# EAGLE library part MC13821 (library GW-devices)
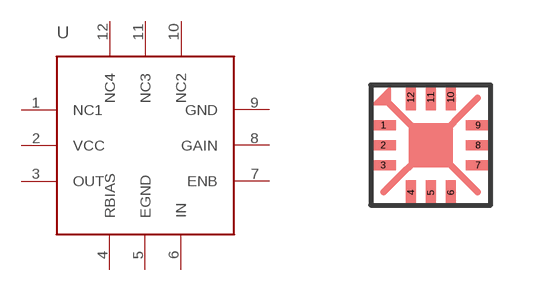
[diagram p13: symbol with the pads of QFN12; footprint QFN12]

Designator prefix -

## MC13821  [QFN12]
1  NC1
2  VCC
3  OUT
4  RBIAS
5  EGND
6  IN
7  ENB
8  GAIN
9  GND
10  NC2
11  NC3
12  NC4

## Footprint QFN12 (pad centres in mm)
smd 0.625 x 0.25: 1 -1.188,0.5; 2 -1.188,0; 3 -1.188,-0.5; 7 1.188,-0.5; 8 1.188,0; 9 1.188,0.5
smd 0.25 x 0.625: 4 -0.5,-1.188; 5 0,-1.188; 6 0.5,-1.188; 10 0.5,1.188; 11 0,1.188; 12 -0.5,1.188